# EAGLE library part LMH1980 (library SpecialIC)
LMH1980 Video Sync Splitter with auto detect (National Semiconductors)
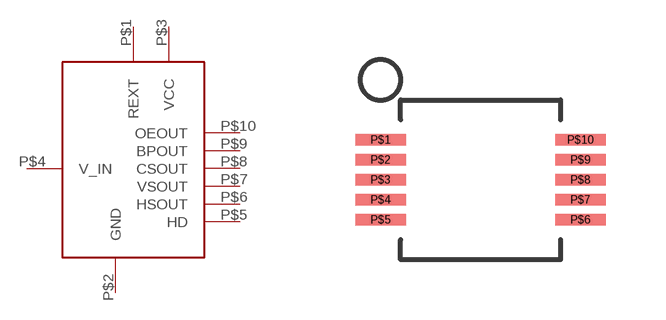
[diagram p0: symbol with the pads of MSOP10; footprint MSOP10]

Designator prefix -

## LMH1980 (PLACE_PART: YES)  [MSOP10]
P$1  REXT
P$2  GND
P$3  VCC
P$4  V_IN
P$5  HD
P$6  HSOUT
P$7  VSOUT
P$8  CSOUT
P$9  BPOUT
P$10  OEOUT

## Footprint MSOP10 (pad centres in mm)
smd 1.27 x 0.29: P$1 -2.5,1; P$2 -2.5,0.5; P$3 -2.5,0; P$4 -2.5,-0.5; P$5 -2.5,-1; P$6 2.5,-1; P$7 2.5,-0.5; P$8 2.5,0; P$9 2.5,0.5; P$10 2.5,1